# EAGLE library part MCP1640 (library FaBo-Supply)
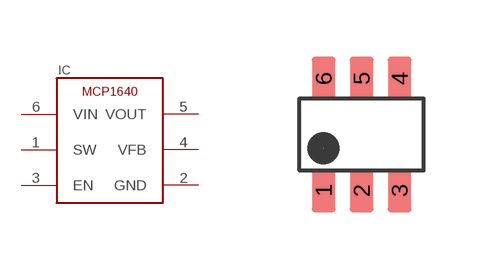
[diagram p6: symbol with the pads of SOT-23-6; footprint SOT-23-6]

Designator prefix IC

## MCP1640T  [SOT-23-6]
1  SW
2  GND
3  EN
4  VFB
5  VOUT
6  VIN

## Footprint SOT-23-6 (pad centres in mm)
smd 0.6 x 1.1: 1 -0.95,-1.4; 2 0,-1.4; 3 0.95,-1.4; 4 0.95,1.4; 5 0,1.4; 6 -0.95,1.4